# EAGLE library part WAVESHARE_SIM7600E (library SIM7600_HAT_Waveshare)
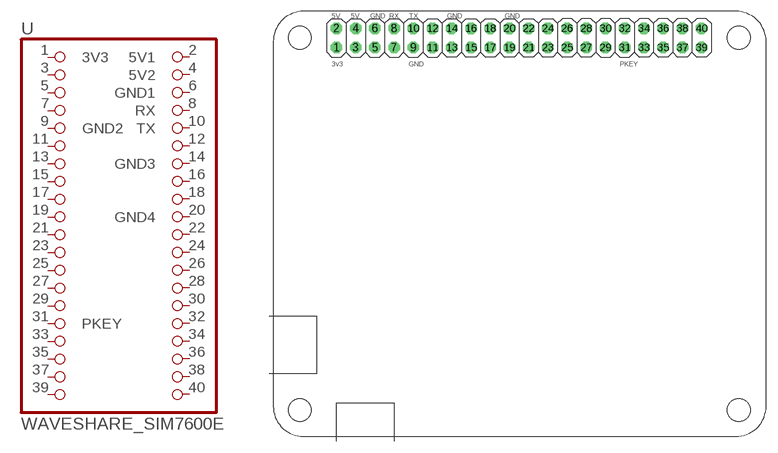
[diagram p0: symbol with the pads of 7600E_HAT; footprint 7600E_HAT]

Designator prefix -

## WAVESHARE_SIM7600E  [7600E_HAT]
1  3V3  pas
2  5V1  pwr
3  3  pas
4  5V2  pwr
5  5  pas
6  GND1  pas
7  7  pas
8  RX  pas
9  GND2  pas
10  TX  pas
11  11  pas
12  12  pas
13  13  pas
14  GND3  pas
15  15  pas
16  16  pas
17  17  pas
18  18  pas
19  19  pas
20  GND4  pas
21  21  pas
22  22  pas
23  23  pas
24  24  pas
25  25  pas
26  26  pas
27  27  pas
28  28  pas
29  29  pas
30  30  pas
31  PKEY  pas
32  32  pas
33  33  pas
34  34  pas
35  35  pas
36  36  pas
37  37  pas
38  38  pas
39  39  pas
40  40  pas

## Footprint 7600E_HAT (pad centres in mm)
PIN HEADER
drill 1.016 octagon: 1 -24.13,21.59; 2 -24.13,24.13; 3 -21.59,21.59; 4 -21.59,24.13; 5 -19.05,21.59; 6 -19.05,24.13; 7 -16.51,21.59; 8 -16.51,24.13; 9 -13.97,21.59; 10 -13.97,24.13; 11 -11.43,21.59; 12 -11.43,24.13; 13 -8.89,21.59; 14 -8.89,24.13; 15 -6.35,21.59; 16 -6.35,24.13; 17 -3.81,21.59; 18 -3.81,24.13; 19 -1.27,21.59; 20 -1.27,24.13; 21 1.27,21.59; 22 1.27,24.13; 23 3.81,21.59; 24 3.81,24.13; 25 6.35,21.59; 26 6.35,24.13; 27 8.89,21.59; 28 8.89,24.13; 29 11.43,21.59; 30 11.43,24.13; 31 13.97,21.59; 32 13.97,24.13; 33 16.51,21.59; 34 16.51,24.13; 35 19.05,21.59; 36 19.05,24.13; 37 21.59,21.59; 38 21.59,24.13; 39 24.13,21.59; 40 24.13,24.13